# Altium schematic symbol library 加速度传感器.SCHLIB: 6 symbols
Pins are listed as number, name and electrical type; pins without a type are passive.

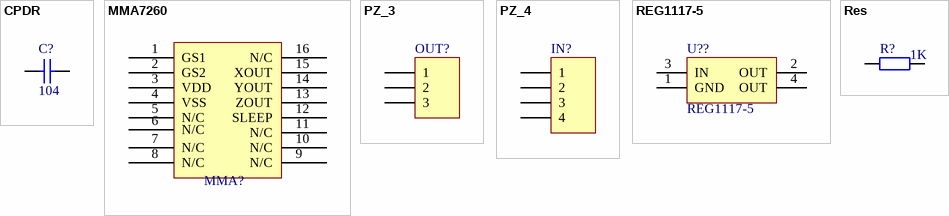
[diagram p0: symbols CPDR to Res]

## CPDR
designator C?  value 104  (hidden comment: CPDR)
瓷片电容; Published: 8-Jun-2000; LatestRevisionDate: 17-Jul-2002; LatestRevisionNote: Re-released for DXP Platform.; Publisher: Altium Limited
footprint CPDR (瓷片电容)
simulation model CAP (Capacitor)
signal-integrity model Cap
pins: 1, 2

## MMA7260
designator MMA?  (value not drawn)
pins: 1 GS1, 2 GS2, 3 VDD, 4 VSS, 5 N/C, 6 N/C, 7 N/C, 8 N/C, 9 N/C, 10 N/C, 11 N/C, 12 SLEEP, 13 ZOUT, 14 YOUT, 15 XOUT, 16 N/C

## PZ_3
designator OUT?  (value not drawn)
排针——3; LatestRevisionDate: 17-Jul-2002; LatestRevisionNote: Re-released for DXP Platform.; Publisher: Altium Limited
footprint HDR-3
signal-integrity model Connector
pins: 1, 2, 3

## PZ_4
designator IN?  (value not drawn)
排针——4; LatestRevisionDate: 17-Jul-2002; LatestRevisionNote: Re-released for DXP Platform.; Publisher: Altium Limited
footprint HDR-4
signal-integrity model Connector
pins: 1, 2, 3, 4

## REG1117-5
designator U??
800mA and 1A Low Dropout Positive Regulator 2.85V, 3.3V, 5V, and Adjustable; PackageDocument: revC; Published: 8-Jun-2000; LatestRevisionDate: 17-Jul-2002; LatestRevisionNote: Re-released for DXP Platform.; DatasheetDocument: Sep-1997; PackageReference: ZZ311; Publisher: Altium Limited
footprint ZZ311 (SOT-223/SC-73; 4 Leads; Body 6.7 x 7.3 mm, inc. leads (LxW max))
pins: 1 GND (power), 2 OUT (power), 3 IN (power), 4 OUT (power)

## Res
designator R?  value 1K  (hidden comment: Res)
电阻; Published: 8-Jun-2000; LatestRevisionDate: 17-Jul-2002; LatestRevisionNote: Re-released for DXP Platform.; Publisher: Altium Limited
footprint AXIAL-0.4 (Resistor; 2 Leads)
simulation model RESISTOR (Resistor)
signal-integrity model Res
pins: 1, 2